# Altium schematic symbol library AQFlow_PCB.SchLib: 14 symbols
Pins are listed as number, name and electrical type; pins without a type are passive.

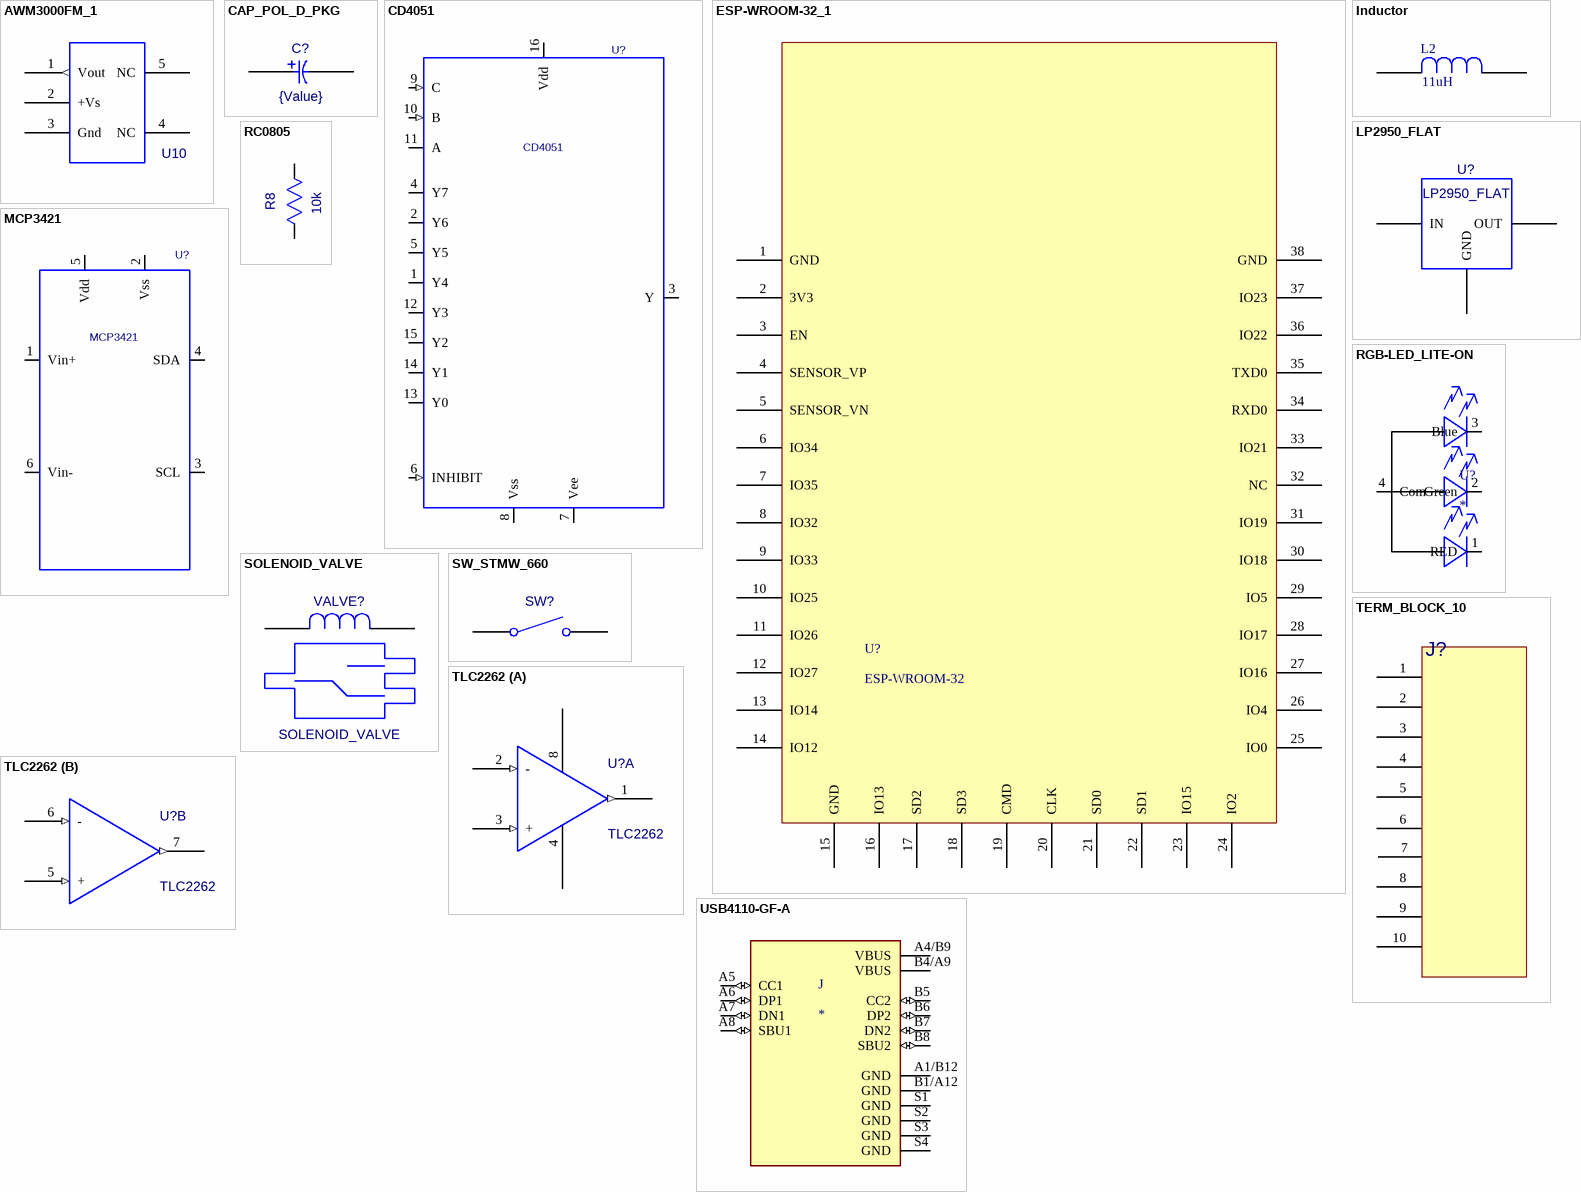
[diagram p0: symbols AWM3000FM_1 to USB4110-GF-A]

## AWM3000FM_1
designator U10
AWM3000FM; Value: *
footprint AWM3000FM_AWM3000FM()
footprint AWM3000FM
pins: 1 Vout (out), 2 +Vs (power), 3 Gnd (power), 4 NC, 5 NC

## CAP_POL_D_PKG
designator C?  value {Value}  (hidden comment: CAP_POL_D_PKG)
footprint CAP_D_SMT_CAP_POL_D_PKG(Primary)
pins: minus, plus

## CD4051
designator U?
Value: *
footprint SO16
pins: 1 Y4 (io), 2 Y6 (io), 3 Y (io), 4 Y7 (io), 5 Y5 (io), 6 INHIBIT (in), 7 Vee (power), 8 Vss (power), 9 C (in), 10 B (in), 11 A (io), 12 Y3 (io), 13 Y0 (io), 14 Y1 (io), 15 Y2 (io), 16 Vdd (power)

## ESP-WROOM-32_1
designator U?, comment ESP-WROOM-32
TXRX MOD BLE WIFI ESP-WROOM-32; Digikey PN: 1528-1801-ND
footprint ESP-WROOM-32
pins: 1 GND, 2 3V3, 3 EN, 4 SENSOR_VP, 5 SENSOR_VN, 6 IO34, 7 IO35, 8 IO32, 9 IO33, 10 IO25, 11 IO26, 12 IO27, 13 IO14, 14 IO12, 15 GND, 16 IO13, 17 SD2, 18 SD3, 19 CMD, 20 CLK, 21 SD0, 22 SD1, 23 IO15, 24 IO2, 25 IO0, 26 IO4, 27 IO16, 28 IO17, 29 IO5, 30 IO18, 31 IO19, 32 NC, 33 IO21, 34 RXD0, 35 TXD0, 36 IO22, 37 IO23, 38 GND

## Inductor
designator L2  value 11uH  (hidden comment: Inductor)
Manufacturer: Wurth Electronics Inc; Manufacturer Part Number: 7447798111; Type: Wirewound; Material - Core: Metal Composite; Inductance: 11µH; Tolerance: ±20%; Current Rating: 6.9A; Current - Saturation: 5.3A; Shielding: Shielded; DC Resistance (DCR): 15.8 mOhm Max; Frequency - Self Resonant: 25MHz; Frequency - Test: 100kHz; Supplier 1: Digi-Key; Supplier Part Number 1: 732-2414-2-ND; RoHS: RoHS Compliant; Category: Inductors, Coils, Chokes; Stock 1: 500; Pricing 1: 500=2.49374 (USD); Packaging: Tape & Reel (TR); Q @ Freq: -; Operating Temperature: -40°C ~ 150°C; Mounting Type: Surface Mount; Package / Case: Nonstandard; Size / Dimension: 0.402" L x 0.402" W (10.20mm x 10.20mm); Height - Seated (Max): 0.252" (6.40mm); Supplier Device Package: -; ComponentLink1URL: http://katalog.we-online.de/pbs/datasheet/7447798111.pdf; ComponentLink1Description: http://katalog.we-online.de/pbs/datasheet/7447798111.pdf
footprint Inductor_Small
footprint 7447798111 (Inductor for 10.5V line)
footprint CDRH6D28NP-7R3NC (Inductor for 7V line)
pins: 1, 2

## LP2950_FLAT
designator U?
Value: *
footprint TO-252
pins: 1 IN "1", 2 GND "2", 3 OUT "3"

## MCP3421
designator U?
Value: *
footprint DIODES SOT-23-6 W6 (SOT23, 6-Leads, Body 3.00x2.85mm, Pitch 0.95mm, IPC Medium Density)
pins: 1 Vin+, 2 Vss, 3 SCL, 4 SDA, 5 Vdd, 6 Vin-

## RC0805
designator R8  value 10k  (hidden comment: RC0805)
footprint ERA-0805
pins: 1, 2

## RGB-LED_LITE-ON
designator U?
footprint LTST-C19HE1WT (LED RGB CHIP SMD)
pins: 1 RED "Red Cathode", 2 Green "Green Cathode", 3 Blue "Red Cathode", 4 Com "Common Anode"

## SOLENOID_VALVE
designator VALVE?
Value: *
footprint SOLENOID_VALVE
pins: 1, 2

## SW_STMW_660
designator SW?  (value not drawn)
Value: *
footprint SW_STMW_660
pins: 1, 2, 3 hidden, 4 hidden

## TERM_BLOCK_10
designator J?  (value not drawn)
Value: *
footprint Terminal Block 10 Pos
pins: 1 P1, 2 P2, 3 P3, 4 P4, 5 P5, 6 P6, 7 P7, 8 P8, 9 P9, 10 P10

## TLC2262
designator U?
Low Power Low Offset Voltage Dual Comparators; Value: *
footprint SO8
part A pins: 1 OUT (out), 2 - (in), 3 + (in), 4 GND (power), 8 V+ (power)
part B pins: 5 + (in), 6 - (in), 7 OUT (out)

## USB4110-GF-A
designator J
USB-C _USB TYPE-C_ USB 2.0 Receptacle Connector 24 _16+8 Dummy_ Position Surface Mount, Right Angle; Through Hole; MP: USB4110-GF-A; MF: GCT; Digi-Key_Purchase_URL: https://www.digikey.com/product-detail/en/gct/USB4110-GF-A/2073-USB4110-GF-A-1-ND/10384548?utm_source=snapeda&utm_medium=aggregator&utm_campaign=symbol; Value: *; Package: None; SnapEDA_Link: https://www.snapeda.com/parts/USB4110-GF-A/Global%20Connector%20Technology/view-part/4001167/?ref=snap; Digi-Key_Part_Number: 2073-USB4110-GF-A-1-ND
footprint GCT_USB4110-GF-A
pins: A1/B12 GND (power), A4/B9 VBUS (power), A5 CC1 (io), A6 DP1 (io), A7 DN1 (io), A8 SBU1 (io), B1/A12 GND (power), B4/A9 VBUS (power), B5 CC2 (io), B6 DP2 (io), B7 DN2 (io), B8 SBU2 (io), S1 GND (power), S2 GND (power), S3 GND (power), S4 GND (power)